# EAGLE library part RJ45 (library TASLink)
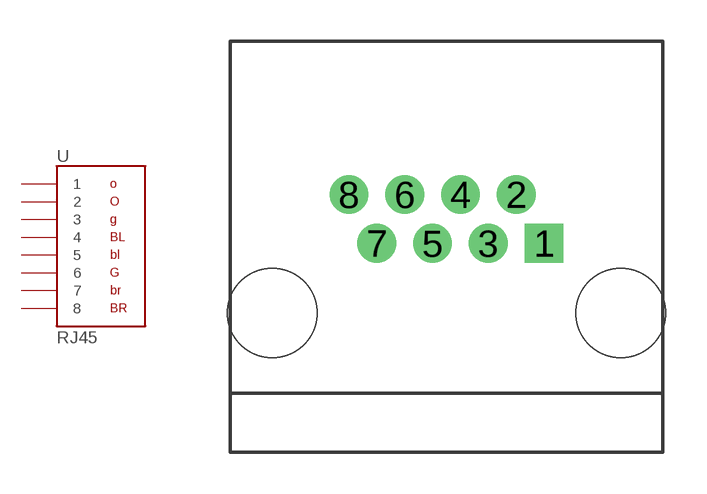
[diagram p0: symbol with the pads of RJ45; footprint RJ45]

Designator prefix -

## RJ45  [RJ45]
1  1
2  2
3  3
4  4
5  5
6  6
7  7
8  8

## Footprint RJ45 (pad centres in mm)
drill 0.9 square: 1 3.556,-0.889
drill 0.9: 2 2.54,0.889; 3 1.524,-0.889; 4 0.508,0.889; 5 -0.508,-0.889; 6 -1.524,0.889; 7 -2.54,-0.889; 8 -3.556,0.889
hole 3.251 at -6.35,-3.429
hole 3.251 at 6.35,-3.429